# Altium schematic symbol library CONECTER.SchLib: 149 symbols (part 2 of 2)
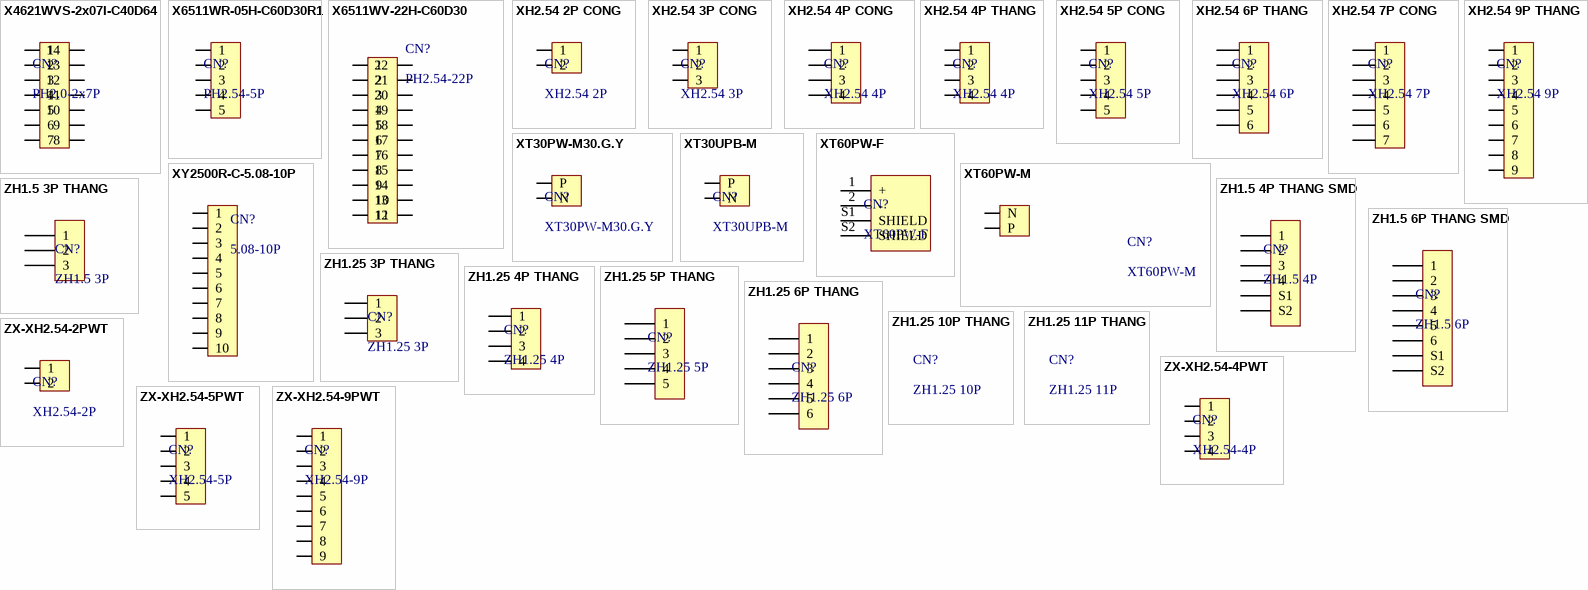
[diagram p4: symbols X4621WVS-2x07I-C40D64 to ZX-XH2.54-9PWT]

## XH2.54 6P THANG
designator CN?, comment XH2.54 6P
1x6P 6P 1 XH Tin 2.54mm 6 -25℃~+85℃ Brass 3A Direct Insert Plugin,P=2.54mm Wire To Board Connector ROHS; Manufacturer: Bossie; Mfr.Part #: BX-XH2.54-6PZZ; Name: XH2.54 6P THANG; So_Chan_Cam: 6; So_Chan_Dan: 0; Package: Plugin,P=2.54mm
footprint Plugin,P=2.54mm,6P
pins: 1, 2, 3, 4, 5, 6

## XH2.54 7P CONG
designator CN?, comment XH2.54 7P
1x7P 7P 1 XH Tin 2.54mm 7 -25℃~+85℃ Brass 3A Bend-in Push-Pull,P=2.54mm Wire To Board Connector ROHS; Manufacturer: Bossie; Mfr.Part #: BX-XH2.54-7PWZ; Name: XH2.54 7P CONG; So_Chan_Cam: 7; So_Chan_Dan: 0; Package: Push-Pull,P=2.54mm
footprint Push-Pull,P=2.54mm,7P
pins: 1, 2, 3, 4, 5, 6, 7

## XH2.54 9P THANG
designator CN?, comment XH2.54 9P
1x9P 9P XH Tin 9 -25℃~+85℃ 3A 1 2.5mm Brass Direct Insert Plugin,P=2.54mm Wire To Board Connector ROHS; Manufacturer: Bossie; Mfr.Part #: BX-XH2.54-9PZZ; Name: XH2.54 9P THANG; So_Chan_Cam: 9; So_Chan_Dan: 0; Package: Plugin,P=2.54mm
footprint Plugin,P=2.54mm,9P
pins: 1, 2, 3, 4, 5, 6, 7, 8, 9

## XT30PW-M30.G.Y
designator CN?
Banana and Tip Connector Adapters RoHS; Manufacturer: Changzhou Amass Elec; Mfr.Part #: XT30PW-M30.G.Y; LCSC Part #: C431092; Package: Through Hole; DigiKey Part Number: NO; ComponentLink1Description: Link; ComponentLink1URL: https://www.lcsc.com/product-detail/C428721.html?s_z=n_xt30
footprint XT30PW-M
pins: 1 P, 2 N

## XT30UPB-M
designator CN?
Banana and Tip Connector Adapters; Manufacturer: Changzhou Amass Elec; Mfr.Part #: XT30PW-M30.G.Y; LCSC Part #: C428721; Package: Through Hole; DigiKey Part Number: NO; ComponentLink1Description: Link; ComponentLink1URL: https://www.lcsc.com/product-detail/C431092.html?s_z=n_xt30; ComponentLink2Description: Link 1
footprint XT30UPB-M
pins: 1 P, 2 N

## XT60PW-F
designator CN?
plug ROHS; Manufacturer: Changzhou Amass Elec; So_Chan_Cam: 4; So_Chan_Dan: 0; Mfr.Part #: XT60PW-F; Name: XT60PW-F; Package: XT60PW-F
footprint XT60PW-F
pins: 1 +, 2 -, S1 SHIELD, S2 SHIELD

## XT60PW-M
designator CN?
Banana and Tip Connector Adapters RoHS; Manufacturer: Changzhou Amass Elec; Mfr.Part #: XT60PW-M; LCSC Part #: C98732; Package: XT60PW-M; DigiKey Part Number: NO; ComponentLink1Description: Link; ComponentLink1URL: https://www.lcsc.com/product-detail/C98732.html?s_z=n_XT60
footprint XT60PW-M
pins: 1 P, 2 N

## XY2500R-C-5.08-10P
designator CN?, comment 5.08-10P
15A Green 300V 5.08mm Board Side/Socket - Open 1 10 1x10P Right-Angle Pin Through Hole,Right Angle,P=5.08mm Headers, Plugs and Sockets RoHS-Close Push-Pull,P=5.08mm Pluggable System Terminal Block ROHS; Manufacturer: XINLAIYA; Mfr.Part #: XY2500R-C-5.08-10P; Package: Through Hole,Right Angle,P=5.08mm; LCSC Part #: C505814; DigiKey Part Number: NO
footprint Through Hole,Right Angle,P=5.08mm,10P
pins: 1, 2, 3, 4, 5, 6, 7, 8, 9, 10

## ZH1.5 3P THANG
designator CN?, comment ZH1.5 3P
1x3P 3P ZH Tin 3 -25℃~+85℃ 1A 1 1.5mm Brass Straight Plugin,P=1.5mm Wire To Board Connector ROHS; Manufacturer: JST; Mfr.Part #: B3B-ZR(LF)(SN); Name: ZH1.5 3P THANG; So_Chan_Cam: 1; So_Chan_Dan: 0; Package: Plugin,P=1.5mm
footprint Plugin,P=1.5mm,3P
pins: 1, 2, 3

## ZH1.5 4P THANG SMD
designator CN?, comment ZH1.5 4P
1x4P 4P ZH Tin 4 -25℃~+85℃ 1A 1 1.5mm Brass Brick nogging SMD,P=1.5mm Wire To Board Connector ROHS; Manufacturer: JST; Mfr.Part #: B4B-ZR-SM4-TF(LF)(SN); Name: ZH1.5 4P THANG SMD; So_Chan_Cam: 0; So_Chan_Dan: 6; Package: SMD,P=1.5mm
footprint SMD,P=1.5mm,4P
pins: 1, 2, 3, 4, S1, S2

## ZH1.5 6P THANG SMD
designator CN?, comment ZH1.5 6P
1x6P 6P ZH Tin 6 -25℃~+85℃ 1A 1 1.5mm Brass Straight Plugin,P=1.5mm Wire To Board Connector ROHS; Manufacturer: JST; Mfr.Part #: B6B-ZR-SM4-TF(LF)(SN); Name: ZH1.5 6P THANG SMD; So_Chan_Cam: 0; So_Chan_Dan: 8; Package: SMD,P=1.5mm
footprint SMD,P=1.5mm,6P
pins: 1, 2, 3, 4, 5, 6, S1, S2

## ZH1.25 3P THANG
designator CN?, comment ZH1.25 3P
1x3P 3P 1 1.25mm 3 Brass Plugin,P=1.25mm Wire To Board Connector ROHS; Manufacturer: BOOMELE(Boom Precision Elec); Mfr.Part #: 1.25T-3A; Name: ZH1.25 3P THANG; Package: Plugin,P=1.25mm; So_Chan_Cam: *
footprint Plugin,P=1.25mm,3P
pins: 1, 2, 3

## ZH1.25 4P THANG
designator CN?, comment ZH1.25 4P
1x4P 4P 1 1.25mm 4 Brass Plugin,P=1.25mm Wire To Board Connector ROHS; Manufacturer: BOOMELE(Boom Precision Elec); Mfr.Part #: 1.25T-4A; Name: ZH1.25 4P THANG; Package: Plugin,P=1.25mm
footprint Plugin,P=1.25mm,4P
pins: 1, 2, 3, 4

## ZH1.25 5P THANG
designator CN?, comment ZH1.25 5P
1x5P 5P 1 1.25mm 5 Brass Plugin,P=1.25mm Wire To Board Connector ROHS; Manufacturer: BOOMELE(Boom Precision Elec); Mfr.Part #: 1.25T-5A; Name: ZH1.25 5P THANG; Package: Plugin,P=1.25mm
footprint Plugin,P=1.25mm,5P
pins: 1, 2, 3, 4, 5

## ZH1.25 6P THANG
designator CN?, comment ZH1.25 6P
1x6P 6P 1 1.25mm 6 Brass Plugin,P=1.25mm Wire To Board Connector ROHS; Manufacturer: BOOMELE(Boom Precision Elec); Mfr.Part #: 1.25T-6A; Name: ZH1.25 6P THANG; So_Chan_Cam: 6; So_Chan_Dan: 0; Package: Plugin,P=1.25mm
footprint Plugin,P=1.25mm,6P
pins: 1, 2, 3, 4, 5, 6

## ZH1.25 10P THANG
designator CN?, comment ZH1.25 10P
1x10P 10P 1 1.25mm 10 Brass Plugin,P=1.25mm Wire To Board Connector ROHS; Manufacturer: BOOMELE(Boom Precision Elec); Mfr.Part #: 1.25T-10A; Name: ZH1.25 10P THANG; Package: Plugin,P=1.25mm; So_Chan_Cam: *
footprint Plugin,P=1.25mm,2P

## ZH1.25 11P THANG
designator CN?, comment ZH1.25 11P
1x11P 11P 1 1.25mm 11 Phosphor bronze Plugin,P=1.25mm Wire To Board Connector ROHS; Manufacturer: BOOMELE(Boom Precision Elec); Mfr.Part #: 1.25T-11A; Name: ZH1.25 11P THANG; Package: Plugin,P=1.25mm; So_Chan_Cam: *
footprint Plugin,P=1.25mm,2P

## ZX-XH2.54-2PWT
designator CN?, comment XH2.54-2P
Connector Header 2 position 2.5mm Pitch 3A Surface Mount, Right Angle -25℃~+85℃; Manufacturer: Megastar; Mfr.Part #: ZX-XH2.54-2PWT; LCSC Part #: C7429671; Package: SMD,P=2.5mm,Surface Mount,Right Angle; DigiKey Part Number: NO
footprint SMD,P=2.5,Right Angle,2P
pins: 1, 2

## ZX-XH2.54-4PWT
designator CN?, comment XH2.54-4P
Connector Header 4 position 2.5mm Pitch 3A Surface Mount, Right Angle -25℃~+85℃; Manufacturer: Megastar; Mfr.Part #: ZX-XH2.54-4PWT; LCSC Part #: C7429673; Package: SMD,P=2.5mm,Surface Mount,Right Angle; DigiKey Part Number: NO
footprint SMD,P=2.5,Right Angle,4P
pins: 1, 2, 3, 4

## ZX-XH2.54-5PWT
designator CN?, comment XH2.54-5P
Connector Header 5 position 2.5mm Pitch 3A Surface Mount, Right Angle -25℃~+85℃; Manufacturer: Megastar; Mfr.Part #: ZX-XH2.54-5PWT; LCSC Part #: C7429674; Package: SMD,P=2.5mm,Surface Mount,Right Angle; DigiKey Part Number: NO
footprint SMD,P=2.5,Right Angle,5P
pins: 1, 2, 3, 4, 5

## ZX-XH2.54-9PWT
designator CN?, comment XH2.54-9P
Connector Header 9 position 2.5mm Pitch 3A Surface Mount, Right Angle -25℃~+85℃; Manufacturer: Megastar; Mfr.Part #: ZX-XH2.54-9PWT; LCSC Part #: C7429678; Package: SMD,P=2.5mm,Surface Mount,Right Angle; DigiKey Part Number: NO
footprint SMD,P=2.5,Right Angle,9P
pins: 1, 2, 3, 4, 5, 6, 7, 8, 9